# Altium schematic symbol library SCH - RF - MODULE - DIGI XBEE SMT.SCHLIB: 1 symbol
Pins are listed as number, name and electrical type; pins without a type are passive.

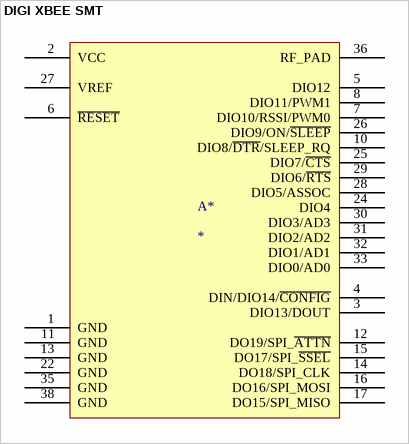
[diagram p0: symbol DIGI XBEE SMT]

## DIGI XBEE SMT
designator A*
pins: 1 GND, 2 VCC, 3 DIO13/DOUT, 4 DIN/DIO14/~{CONFIG}, 5 DIO12, 6 ~{RESET}, 7 DIO10/RSSI/PWM0, 8 DIO11/PWM1, 10 DIO8/~{DTR}/SLEEP_RQ, 11 GND, 12 DO19/SPI_~{ATTN}, 13 GND, 14 DO18/SPI_CLK, 15 DO17/SPI_~{SSEL}, 16 DO16/SPI_MOSI, 17 DO15/SPI_MISO, 22 GND, 24 DIO4, 25 DIO7/~{CTS}, 26 DIO9/ON/~{SLEEP}, 27 VREF, 28 DIO5/ASSOC, 29 DIO6/~{RTS}, 30 DIO3/AD3, 31 DIO2/AD2, 32 DIO1/AD1, 33 DIO0/AD0, 35 GND, 36 RF_PAD, 38 GND